# EAGLE library part LOGO8_24_CE (library LOGO)
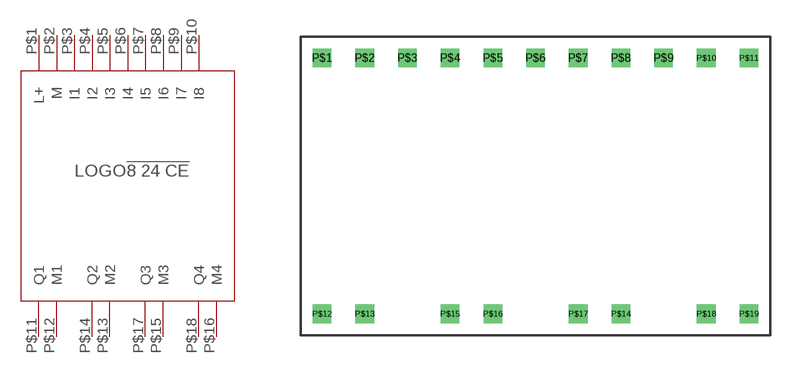
[diagram p0: symbol with the pads of LOGO8_24_CE; footprint LOGO8_24_CE]

Designator prefix -

## LOGO8_24_CE  [LOGO8_24_CE]
P$1  L+  in
P$2  M  in
P$3  I1  in
P$4  I2  in
P$5  I3  in
P$6  I4  in
P$7  I5  in
P$8  I6  in
P$9  I7  in
P$10  I8  in
P$11  Q1  out
P$12  M1  out
P$13  M2  out
P$14  Q2  out
P$15  M3  out
P$16  M4  out
P$17  Q3  out
P$18  Q4  out

## Footprint LOGO8_24_CE (pad centres in mm)
drill 0.6 square: P$1 -10.16,7.62; P$2 -7.62,7.62; P$3 -5.08,7.62; P$4 -2.54,7.62; P$5 0,7.62; P$6 2.54,7.62; P$7 5.08,7.62; P$8 7.62,7.62; P$9 10.16,7.62; P$10 12.7,7.62; P$11 15.24,7.62; P$12 -10.16,-7.62; P$13 -7.62,-7.62; P$14 7.62,-7.62; P$15 -2.54,-7.62; P$16 0,-7.62; P$17 5.08,-7.62; P$18 12.7,-7.62; P$19 15.24,-7.62